# EAGLE library part MAX319CPA (library custom_parts_library)
Maxim MAX319CPA This switch was imported with Ultra Librarian and then the schematic was edited, but the footprint looks good, I hope.
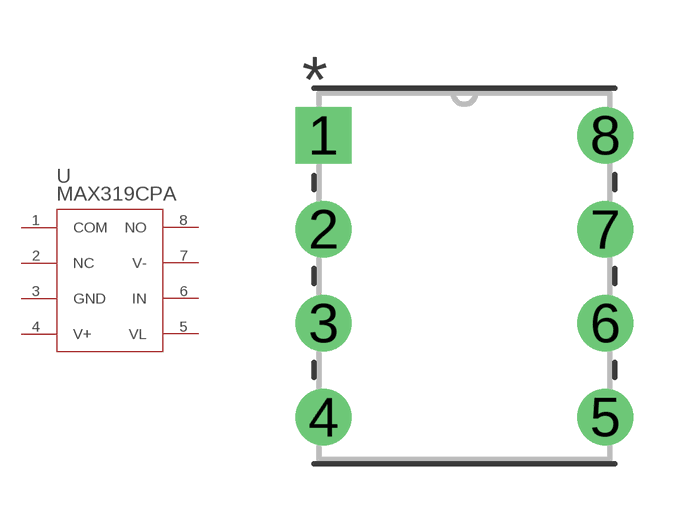
[diagram p1: symbol with the pads of 21-0043D_8; footprint 21-0043D_8]

Designator prefix U

## MAX319CPA (MANUFACTURER_PART_NUMBER: MAX319CPA; VENDOR: Maxim)  [21-0043D_8]
1  COM
2  NC  pas
3  GND  pwr
4  V+  pwr
5  VL  pwr
6  IN  in
7  V-  pwr
8  NO

## Footprint 21-0043D_8 (pad centres in mm)
drill 0.813 pad 1.524 square: 1 -7.62,7.62
drill 0.813 pad 1.524: 2 -7.62,5.08; 3 -7.62,2.54; 4 -7.62,0; 5 0,0; 6 0,2.54; 7 0,5.08; 8 0,7.62